# Altium footprint library PCB - CRYSTALS - ABRACON ABM8G.PCBLIB: 1 footprints
Each footprint in its own frame and in the unit in brackets; x right, y up, seen from the top. Pads: shape width x height; smd on the part's side, far side on the other; paste and mask are expansions set on the pad; w line width, h text height; cw(c..) or ccw(c..) is an arc to the next point about the centre after c.
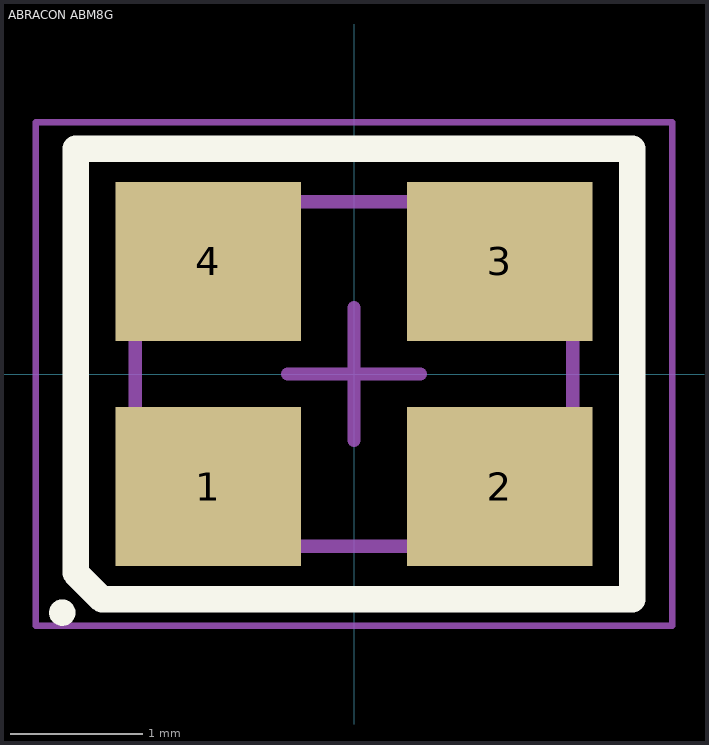
[diagram p0: the footprint, top view; thin cyan lines are the x and y axes]

## ABRACON ABM8G [mm] "Crystal, 4-Leads, Body 2.50x3.20mm, Pitch 2.20mm, IPC Medium Density"
height 1
pads (4):
  rect 1.4x1.2 smd: 1(-1.1,-0.85) 2(1.1,-0.85) 3(1.1,0.85) 4(-1.1,0.85)
Top Overlay:
  circle w0.1: c-2.2,-1.8 r0.05
  lines w0.2: -2.1,-1.5 -2.1,1.7 2.1,1.7 2.1,-1.7 -1.1,-1.7 -1.9,-1.7 -2.1,-1.5
Mechanical 13:
  lines w0.1: -1.65,-1.3 1.65,-1.3 1.65,1.3 -1.65,1.3 -1.65,-1.3
Mechanical 15:
  lines w0.05: -2.4,-1.9 2.4,-1.9 2.4,1.9 -2.4,1.9 -2.4,-1.9
Mechanical 2 (Mech9):
  lines w0.1: -0.5,0 0.5,0 ; 0,-0.5 0,0.5
3D body "Abracon ABM8G.STEP": height 0.6, standoff 0, extent -1.61,-1.26 1.61,1.26